# Altium schematic symbol library Schlib.SchLib: 3 symbols
Pins are listed as number, name and electrical type; pins without a type are passive.

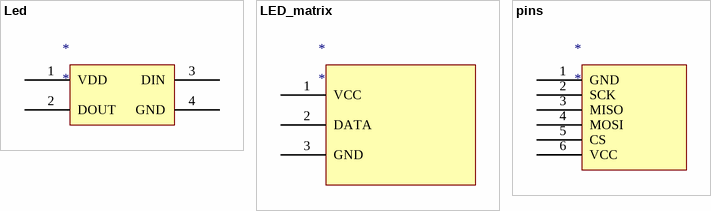
[diagram p0: symbols Led to pins]

## Led
designator *
pins: 1 VDD, 2 DOUT, 3 DIN, 4 GND

## LED_matrix
designator *
pins: 1 VCC, 2 DATA, 3 GND

## pins
designator *
pins: 1 GND, 2 SCK, 3 MISO, 4 MOSI, 5 CS, 6 VCC